# EAGLE library part UDA1320ATS (library micro-philips)
Stereo filter D/A CONVERTER
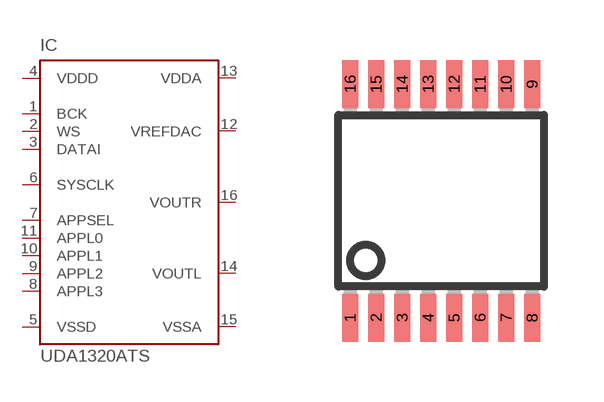
[diagram p14: symbol with the pads of SSOP16; footprint SSOP16]

Designator prefix IC

## UDA1320ATS (OC_FARNELL: unknown; OC_NEWARK: unknown)  [SSOP16]
1  BCK  in
2  WS  in
3  DATAI  in
4  VDDD  pwr
5  VSSD  pwr
6  SYSCLK  in
7  APPSEL  in
8  APPL3  in
9  APPL2  in
10  APPL1  in
11  APPL0  in
12  VREFDAC  in
13  VDDA  pwr
14  VOUTL  out
15  VSSA  pwr
16  VOUTR  out

## Footprint SSOP16 (pad centres in mm)
Small Shrink Outline Package
smd 0.4 x 1.2: 1 -2.275,-2.925; 2 -1.625,-2.925; 3 -0.975,-2.925; 4 -0.325,-2.925; 5 0.325,-2.925; 6 0.975,-2.925; 7 1.625,-2.925; 8 2.275,-2.925; 9 2.275,2.925; 10 1.625,2.925; 11 0.975,2.925; 12 0.325,2.925; 13 -0.325,2.925; 14 -0.975,2.925; 15 -1.625,2.925; 16 -2.275,2.925